# EAGLE library part 418311170810 (library Wurth_Elektronik_Electromechanic_Switch_rev16b)
WS-PT 2.54 mm piano type compact SMD Dip Switch with flat actuator, 10 Pole
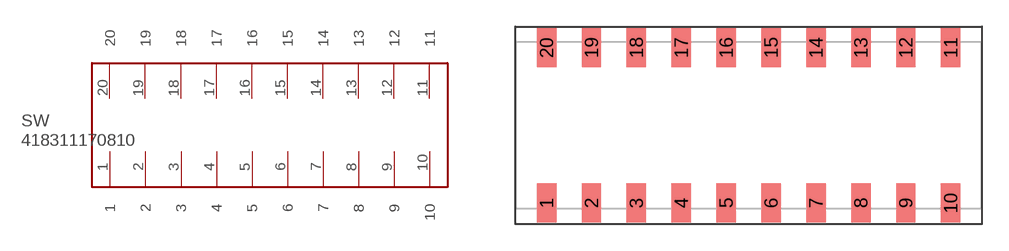
[diagram p105: symbol with the pads of 418311170810; footprint 418311170810]

Designator prefix SW

## 418311170810  [418311170810]
1  1
2  2
3  3
4  4
5  5
6  6
7  7
8  8
9  9
10  10
11  11
12  12
13  13
14  14
15  15
16  16
17  17
18  18
19  19
20  20

## Footprint 418311170810 (pad centres in mm)
WS-PT 2.54 mm piano type compact SMD Dip Switch with flat actuator, 10 Pole
smd 1.1 x 2.2: 1 -11.43,-4.4; 2 -8.89,-4.4; 3 -6.35,-4.4; 4 -3.81,-4.4; 5 -1.27,-4.4; 6 1.27,-4.4; 7 3.81,-4.4; 8 6.35,-4.4; 9 8.89,-4.4; 10 11.43,-4.4; 11 11.43,4.4; 12 8.89,4.4; 13 6.35,4.4; 14 3.81,4.4; 15 1.27,4.4; 16 -1.27,4.4; 17 -3.81,4.4; 18 -6.35,4.4; 19 -8.89,4.4; 20 -11.43,4.4